# Altium schematic symbol library ENGR100Sch.SchLib: 25 symbols
Pins are listed as number, name and electrical type; pins without a type are passive.

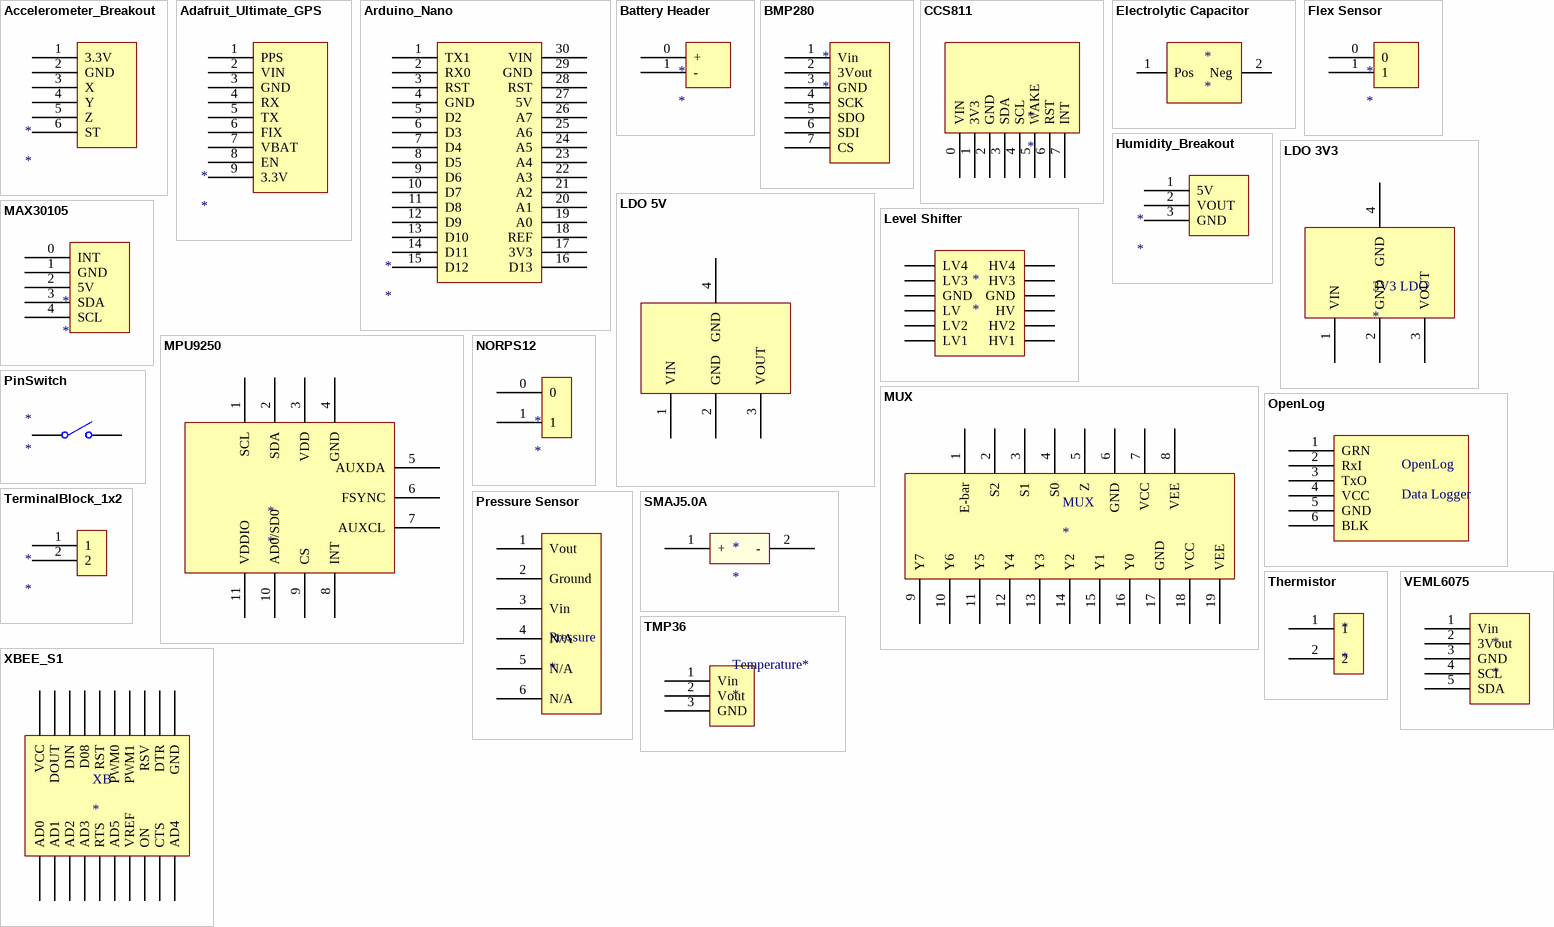
[diagram p0: symbols Accelerometer_Breakout to XBEE_S1]

## Accelerometer_Breakout
designator *
ADXL335 3-axis accelerometer
footprint Accelerometer_Breakout
pins: 1 3.3V, 2 GND, 3 X, 4 Y, 5 Z, 6 ST

## Adafruit_Ultimate_GPS
designator *
UART GPS module from adafruit
footprint Adafruit_Ultimate_GPS (Adafruit GPS Breakout Board)
pins: 1 PPS, 2 VIN, 3 GND, 4 RX, 5 TX, 6 FIX, 7 VBAT, 8 EN, 9 3.3V

## Arduino_Nano
designator *
Arduino Nano board
footprint Arduino_Nano
pins: 1 TX1, 2 RX0, 3 RST, 4 GND, 5 D2, 6 D3, 7 D4, 8 D5, 9 D6, 10 D7, 11 D8, 12 D9, 13 D10, 14 D11, 15 D12, 16 D13, 17 3V3, 18 REF, 19 A0, 20 A1, 21 A2, 22 A3, 23 A4, 24 A5, 25 A6, 26 A7, 27 5V, 28 RST, 29 GND, 30 VIN

## Battery Header
designator *
footprint Battery Header (Spring Terminal Battery Header)
pins: 0 +, 1 -

## BMP280
designator *
BMP280 Pressure, Altitude, and Temperature Sensor
footprint BMP280
pins: 1 Vin, 2 3Vout, 3 GND, 4 SCK, 5 SDO, 6 SDI, 7 CS

## CCS811
designator *
footprint CCS811 (Air Quality Sensor)
pins: 0 VIN, 1 3V3, 2 GND, 3 SDA, 4 SCL, 5 WAKE, 6 RST, 7 INT

## Electrolytic Capacitor
designator *
Filter Capacitor
footprint Electrolytic Capacitor
footprint Electrolytic Capacitor
pins: 1 Pos, 2 Neg

## Flex Sensor
designator *
footprint Flex Sensor (Long and Short Flex Sensor)
pins: 0, 1

## Humidity_Breakout
designator *
HIH4030 Humidity Sensor Breakout
footprint Humidity_Breakout
pins: 1 5V, 2 VOUT, 3 GND

## LDO 3V3
designator 3V3 LDO
UA78M05 LDO
footprint SOT223-4N (SOT223, 4-Leads, Body 6.5x3.5mm, Pitch 2.3mm, Lead Span 7mm, IPC Medium Density)
pins: 1 VIN, 2 GND, 3 VOUT, 4 GND

## LDO 5V
designator U?, comment LM340
LM340 LDO 5V Out
footprint SOT223-4N (SOT223, 4-Leads, Body 6.5x3.5mm, Pitch 2.3mm, Lead Span 7mm, IPC Medium Density)
pins: 1 VIN, 2 GND, 3 VOUT, 4 GND

## Level Shifter
designator *
Logic Level Shifter from Sparkfun
footprint Level Shifter (1X06)
pins: 1 LV4, 2 LV3, 3 GND, 4 LV, 5 LV2, 6 LV1, 7 HV4, 8 HV3, 9 GND, 10 HV, 11 HV2, 12 HV1

## MAX30105
designator *
footprint MAX30105 (Particle Sensor)
pins: 0 INT, 1 GND, 2 5V, 3 SDA, 4 SCL

## MPU9250
designator *
MPU9250 9-axis IMU from Sparkfun
pins: 1 SCL, 2 SDA, 3 VDD, 4 GND, 5 AUXDA, 6 FSYNC, 7 AUXCL, 8 INT, 9 CS, 10 AD0/SD0, 11 VDDIO

## MUX
designator MUX
8-to-1 MUX 74HC4051 from Sparkfun
footprint MUX (74HC4051 from Sparkfun)
pins: 1 E-bar, 2 S2, 3 S1, 4 S0, 5 Z, 6 GND, 7 VCC, 8 VEE, 9 Y7, 10 Y6, 11 Y5, 12 Y4, 13 Y3, 14 Y2, 15 Y1, 16 Y0, 17 GND, 18 VCC, 19 VEE

## NORPS12
designator *
footprint NORPS12 (NORPS-12 Photocell)
pins: 0, 1

## OpenLog
designator OpenLog, comment Data Logger
footprint OpenLog
pins: 1 GRN "OpenLog", 2 RxI "OpenLog", 3 TxO "OpenLog", 4 VCC "OpenLog", 5 GND "OpenLog", 6 BLK "OpenLog"

## PinSwitch
designator *
RBF pin for turning on/off payload
footprint SwitchPin
pins: 0 COMMON, 1 NO

## Pressure Sensor
designator Pressure
MPX4115A Pressure Sensor
footprint Pressure Sensor (MPX4115A)
pins: 1 Vout, 2 Ground, 3 Vin, 4 N/A, 5 N/A, 6 N/A

## SMAJ5.0A
designator *
Circuit Protection Diode
footprint SMAJ5.0A
pins: 1 +, 2 -

## TerminalBlock_1x2
designator *
Battery input and stability
pins: 1, 2

## Thermistor
designator *
Nonlinear Temperature Sensor 1k ohms room temperature
footprint Thermistor
pins: 1, 2

## TMP36
designator Temperature*
A temperature sensor for ENGR100 TMP36 model
footprint TMP36 (TMP36 Temperature Sensor)
pins: 1 Vin, 2 Vout, 3 GND

## VEML6075
designator *
VEML6075 UV Light sensor from adafruit
footprint VEML6075 (UV-light sensor module from adafruit)
pins: 1 Vin, 2 3Vout, 3 GND, 4 SCL, 5 SDA

## XBEE_S1
designator XB
XBee RF module
footprint XBEE_S1 (XBee S1 Footprint STD)
pins: 1 VCC, 2 DOUT, 3 DIN, 4 D08, 5 RST, 6 PWM0, 7 PWM1, 8 RSV, 9 DTR, 10 GND, 11 AD4, 12 CTS, 13 ON, 14 VREF, 15 AD5, 16 RTS, 17 AD3, 18 AD2, 19 AD1, 20 AD0